# Altium schematic symbol library IntergratedModule.SchLib: 6 symbols
Pins are listed as number, name and electrical type; pins without a type are passive.

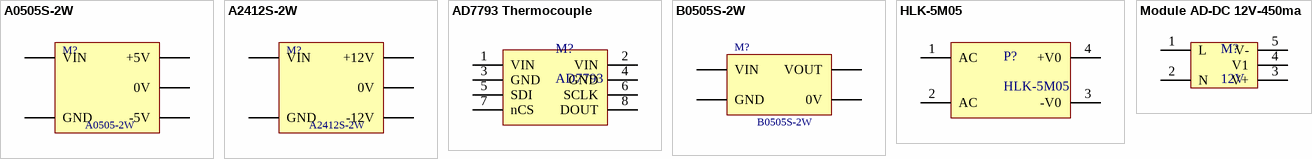
[diagram p0: symbols A0505S-2W to Module AD-DC 12V-450ma]

## A0505S-2W
designator M?, comment A0505-2W
DC-DC Converter Isolated
footprint A2412S-2W
pins: 1 VIN, 2 GND, 4 -5V, 5 0V, 6 +5V

## A2412S-2W
designator M?
DC-DC Converter Isolated
footprint A2412S-2W
pins: 1 VIN, 2 GND, 4 -12V, 5 0V, 6 +12V

## AD7793 Thermocouple
designator M?, comment AD7793
footprint AD7793 Thermocouple Module
pins: 1 VIN, 2 VIN, 3 GND, 4 GND, 5 SDI, 6 SCLK, 7 nCS, 8 DOUT

## B0505S-2W
designator M?
DC-DC Converter Isolated
footprint B0505S-2W (5V-5V Isolate 2W)
pins: 1 VIN, 2 GND, 4 0V, 6 VOUT

## HLK-5M05
designator P?
module AC-DC
footprint HLK-5M05
pins: 1 AC (power), 2 AC (power), 3 -V0 (power), 4 +V0 (power)

## Module AD-DC 12V-450ma
designator M?, comment 12V
Input voltage: AC 85 - 265v 50 / 60HZ / Output voltage: DC 12V (± 0.1V) / Output Current: 450mA / Power: 5W / Size: 3*2*1.9cm
footprint Module AC-DC 12V-450ma
pins: 1 L (power), 2 N (power), 3 V+ (power), 4 V1 (power), 5 V- (power)